# Altium footprint library 100uF 3V3LDO.PcbLib: 1 footprints
Each footprint in its own frame and in the unit in brackets; x right, y up, seen from the top. Pads: shape width x height; smd on the part's side, far side on the other; paste and mask are expansions set on the pad; w line width, h text height; cw(c..) or ccw(c..) is an arc to the next point about the centre after c.
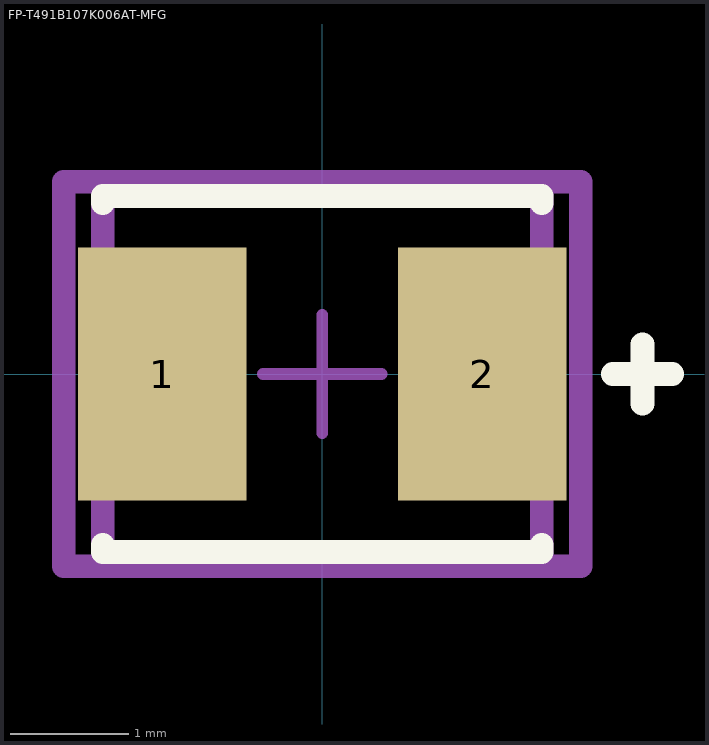
[diagram p0: the footprint, top view; thin cyan lines are the x and y axes]

## FP-T491B107K006AT-MFG [mm]
pads (2):
  rect 1.42x2.13 smd paste+0 mask+0: 1(-1.35,0) 2(1.35,0)
Top Overlay:
  lines w0.2: -1.85,-1.44 -1.85,-1.5 1.85,-1.5 1.85,-1.44 ; -1.85,1.44 -1.85,1.5 1.85,1.5 1.85,1.44 ; 2.45,0 2.95,0 ; 2.7,-0.25 2.7,0.25
Top Assembly:
  lines w0.2: -2.18,-1.62 -2.18,1.62 2.18,1.62 2.18,-1.62 -2.18,-1.62
  text ".Designator" at 0,0 h1
Top 3D Body:
  lines w0.2: -1.85,-1.5 -1.85,1.5 1.85,1.5 1.85,-1.5 -1.85,-1.5
Top Courtyard:
  lines w0.2: -2.18,-1.62 -2.18,1.62 2.18,1.62 2.18,-1.62 -2.18,-1.62
Top Component Center:
  lines w0.1: -0.5,0 0.5,0 ; 0,-0.5 0,0.5
3D body "Cap_Kemet_T491B107K006AT_eec.STEP": height 0.25, standoff 0, extent -2.18,-1.62 2.18,1.62